# EAGLE library part SPI-PORT (library RocketControlBoard)
3x2 2.54mm sized SPI port
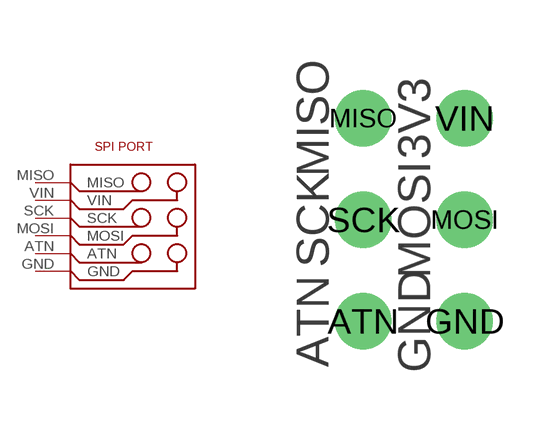
[diagram p2: symbol with the pads of SPI-PORT; footprint SPI-PORT]

Designator prefix -

## SPI-PORT  [SPI-PORT]
ATN  ATN
GND  GND
MISO  MISO
MOSI  MOSI
SCK  SCK
VIN  VIN

## Footprint SPI-PORT (pad centres in mm)
drill 0.9: ATN 0,0; GND 2.54,0; MISO 0,5.08; MOSI 2.54,2.54; SCK 0,2.54; VIN 2.54,5.08